# EAGLE library part BC070* (library MyParts)
BOARD-BOARD CONNECTOR SOCKET, 6WAY, 1ROW Pitch Spacing:1mm No. of Rows:1 No. of Contacts:6 Gender:Receptacle Contact Termination:Surface Mount Vertical Contact Plating:Gold Contact Material:Phosphor Bronze RoHS Compliant: Yes
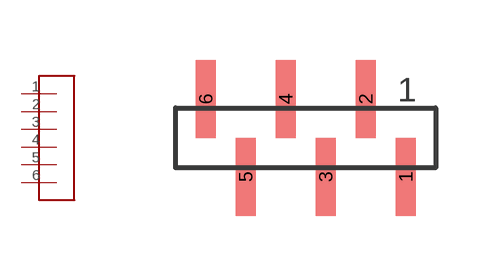
[diagram p21: symbol with the pads of 1X6_1MM_SMD_SOCKET-B2; footprint 1X6_1MM_SMD_SOCKET-B2]

Designator prefix -

## BC070-06-A-1-L-D (NEWARK_PN: 67R7211)  [1X6_1MM_SMD_SOCKET-B2]
1  P$1
2  P$2
3  P$3
4  P$4
5  P$5
6  P$6

## Footprint 1X6_1MM_SMD_SOCKET-B2 (pad centres in mm)
1.0mm PITCH SOCKET, SINGLE ROW, SURFACE MOUNT, VERTICAL
smd 0.5 x 1.95: 1 2.5,-0.975; 2 1.5,0.975; 3 0.5,-0.975; 4 -0.5,0.975; 5 -1.5,-0.975; 6 -2.5,0.975